# EAGLE library part AS-ITM-00188 (library tinycircuits)
IC IRDA STD CONTROLLER 18SOIC
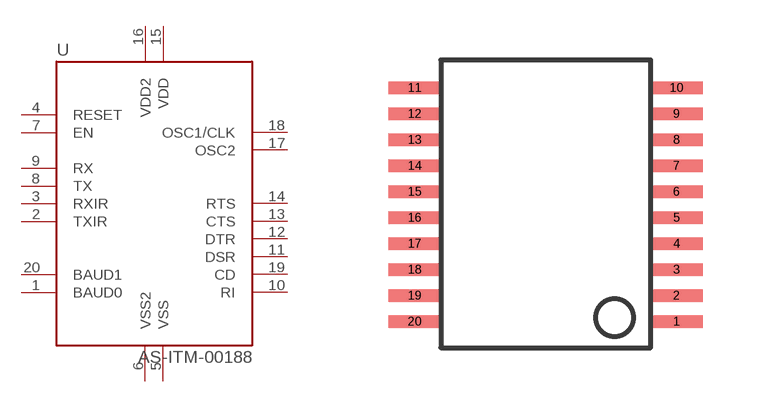
[diagram p80: symbol with the pads of SSOP(20); footprint SSOP(20)]

Designator prefix U

## AS-ITM-00188 (PARTNO: AS-ITM-00188; VALUE: MCP2150-I/SO)  [SSOP(20)]
1  BAUD0
2  TXIR
3  RXIR
4  RESET
5  VSS
6  VSS2
7  EN
8  TX
9  RX
10  RI
11  DSR
12  DTR
13  CTS
14  RTS
15  VDD
16  VDD2
17  OSC2
18  OSC1/CLK
19  CD
20  BAUD1

## Footprint SSOP(20) (pad centres in mm)
smd 1.3 x 0.32: 1 3.35,-2.9; 2 3.35,-2.25; 3 3.35,-1.6; 4 3.35,-0.95; 5 3.35,-0.3; 6 3.35,0.35; 7 3.35,1; 8 3.35,1.65; 9 3.35,2.3; 10 3.35,2.95; 11 -3.2,2.95; 12 -3.2,2.3; 13 -3.2,1.65; 14 -3.2,1; 15 -3.2,0.35; 16 -3.2,-0.3; 17 -3.2,-0.95; 18 -3.2,-1.6; 19 -3.2,-2.25; 20 -3.2,-2.9